# Altium schematic symbol library FXC1265-1R0M.SCHLIB: 1 symbol
Pins are listed as number, name and electrical type; pins without a type are passive.

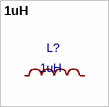
[diagram p0: symbol 1uH]

## 1uH
designator L?
FXC1265-1R0M; Manufacturer: cjiang(长江微电); nameAlias: Value; Contributor: LCSC; Supplier: LCSC; Supplier Part: C208109; Manufacturer Part: FXC1265-1R0M; JLCPCB Part Class: Extended Part; spicePre: L; spiceSymbolName: FXC1265-1R0M
footprint IND-SMD_L14.5-W13.5
pins: 1, 2